# EAGLE library part A4984/5 (library logic-supply)
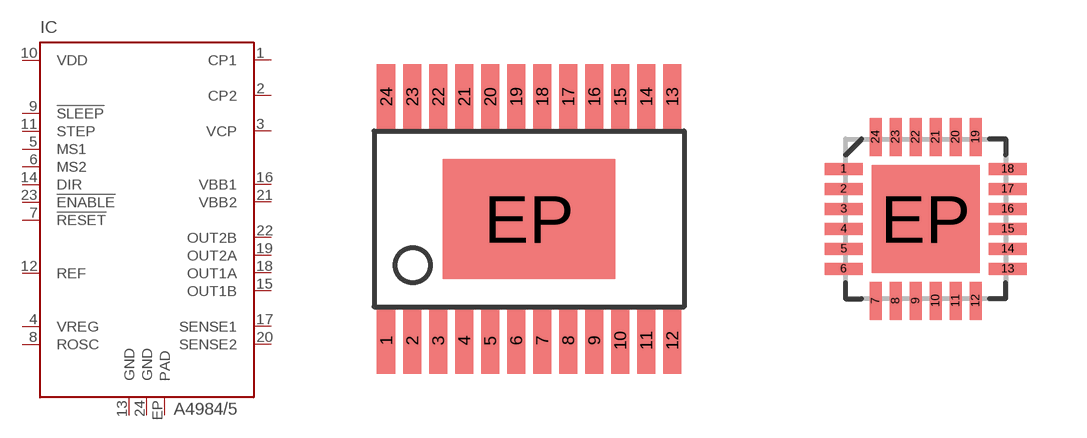
[diagram p29: symbol with the pads of TSSOP24_PAD; footprints TSSOP24_PAD, QFN24]

Designator prefix IC

## A4984/5LP  [TSSOP24_PAD]
1  CP1
2  CP2
3  VCP
4  VREG
5  MS1
6  MS2
7  !RESET
8  ROSC
9  !SLEEP
10  VDD
11  STEP
12  REF
13  GND
14  DIR
15  OUT1B
16  VBB1
17  SENSE1
18  OUT1A
19  OUT2A
20  SENSE2
21  VBB2
22  OUT2B
23  !ENABLE
24  GND
EP  PAD

## A4984/5ES  [QFN24]
1  OUT2B
2  !ENABLE
3  GND
4  CP1
5  CP2
6  VCP
7  VREG
8  MS1
9  MS2
10  !RESET
11  ROSC
12  !SLEEP
13  VDD
14  STEP
15  REF
16  GND
17  DIR
18  OUT1B
19  VBB1
20  SENSE1
21  OUT1A
22  OUT2A
23  SENSE2
24  VBB2
EP  PAD

## Footprint TSSOP24_PAD (pad centres in mm)
smd 0.45 x 1.65: 1 -3.575,-3.05; 2 -2.925,-3.05; 3 -2.275,-3.05; 4 -1.625,-3.05; 5 -0.975,-3.05; 6 -0.325,-3.05; 7 0.325,-3.05; 8 0.975,-3.05; 9 1.625,-3.05; 10 2.275,-3.05; 11 2.925,-3.05; 12 3.575,-3.05; 13 3.575,3.05; 14 2.925,3.05; 15 2.275,3.05; 16 1.625,3.05; 17 0.975,3.05; 18 0.325,3.05; 19 -0.325,3.05; 20 -0.975,3.05; 21 -1.625,3.05; 22 -2.275,3.05; 23 -2.925,3.05; 24 -3.575,3.05
smd 4.32 x 3: EP 0,0

## Footprint QFN24 (pad centres in mm)
smd 0.95 x 0.3: 1 -2.05,1.25; 2 -2.05,0.75; 3 -2.05,0.25; 4 -2.05,-0.25; 5 -2.05,-0.75; 6 -2.05,-1.25; 13 2.05,-1.25; 14 2.05,-0.75; 15 2.05,-0.25; 16 2.05,0.25; 17 2.05,0.75; 18 2.05,1.25
smd 0.3 x 0.95: 7 -1.25,-2.05; 8 -0.75,-2.05; 9 -0.25,-2.05; 10 0.25,-2.05; 11 0.75,-2.05; 12 1.25,-2.05; 19 1.25,2.05; 20 0.75,2.05; 21 0.25,2.05; 22 -0.25,2.05; 23 -0.75,2.05; 24 -1.25,2.05
smd 2.7 x 2.7: EP 0,0